# Altium schematic symbol library 43650-0215.SchLib: 1 symbol
Pins are listed as number, name and electrical type; pins without a type are passive.

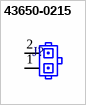
[diagram p0: symbol 43650-0215]

## 43650-0215
designator J?
=Description
pins: 1, 2